# Altium schematic symbol library EugenesLib.SchLib: 18 symbols
Pins are listed as number, name and electrical type; pins without a type are passive.

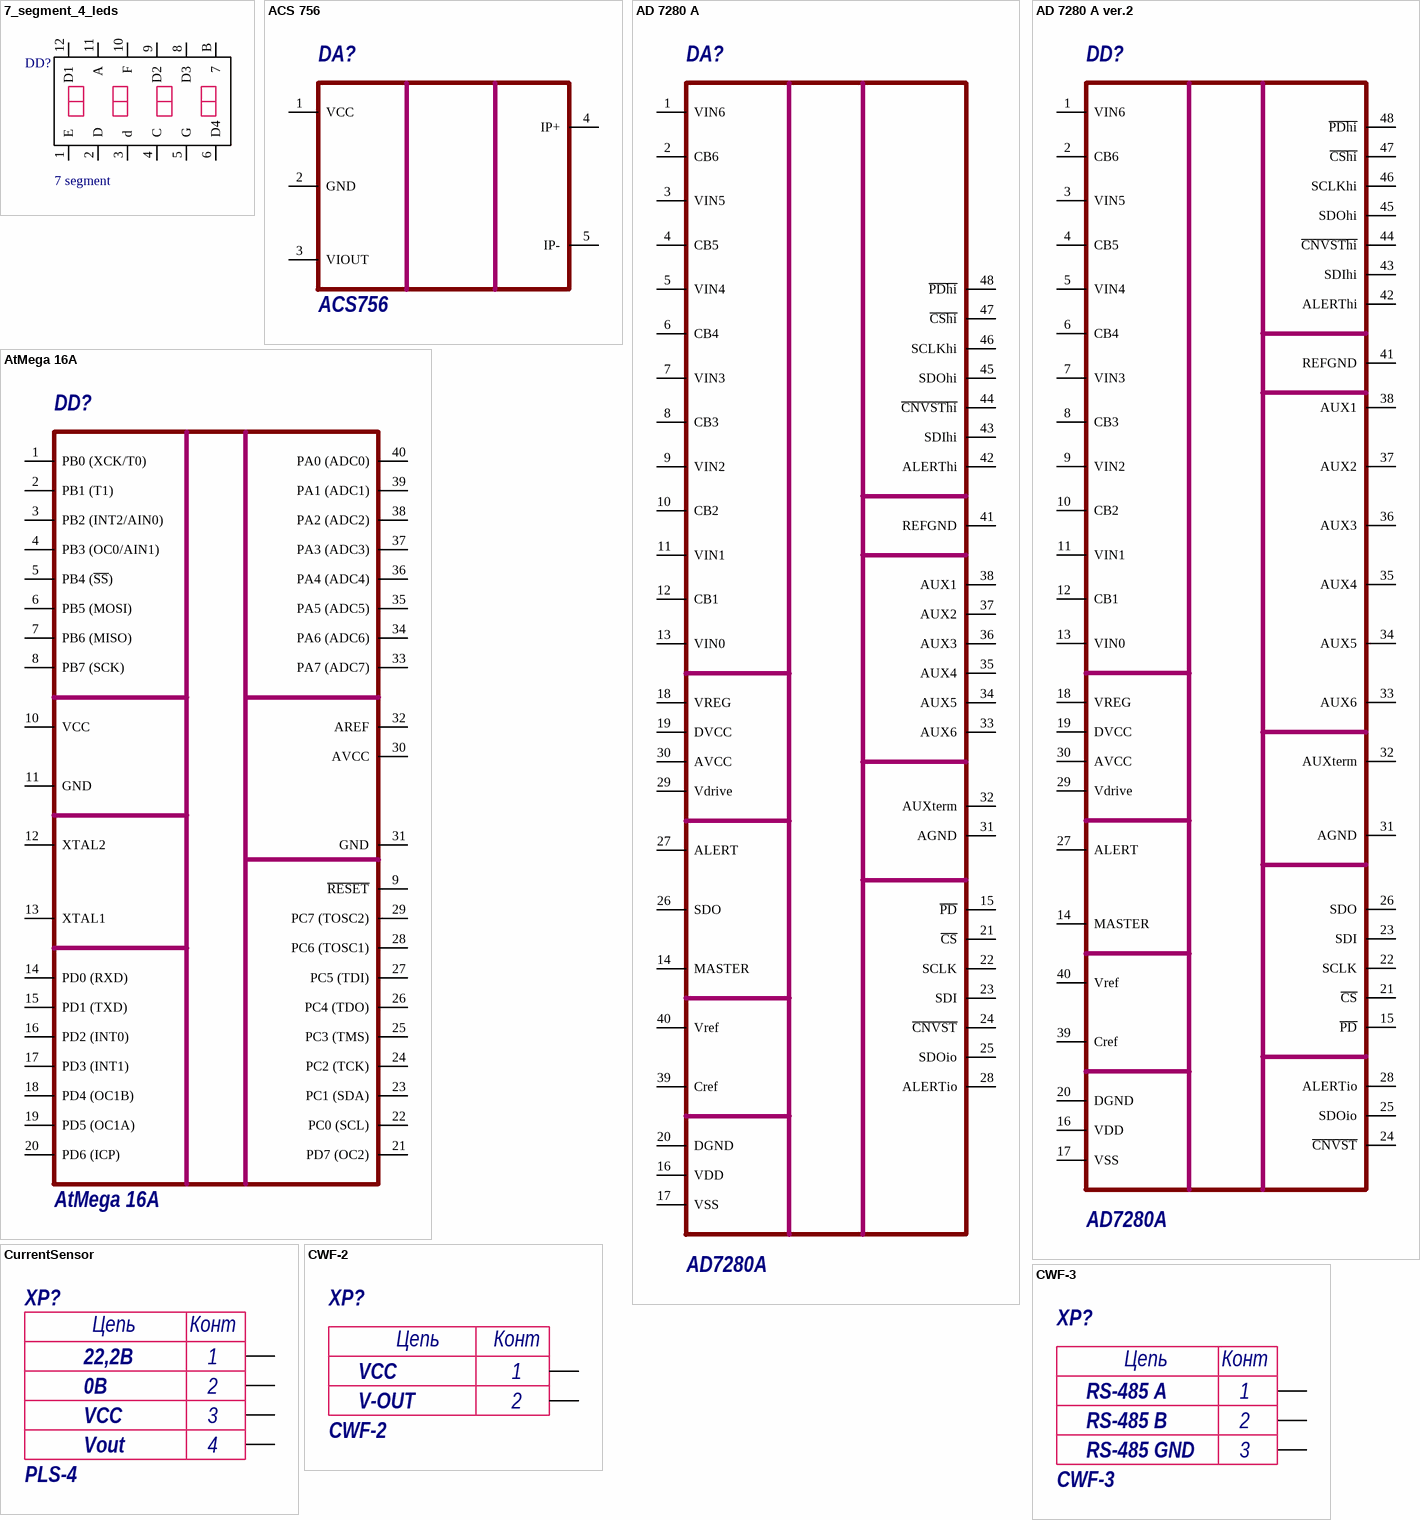
[diagram p0: symbols 7_segment_4_leds to CWF-3]

## 7_segment_4_leds
designator DD?, comment 7 segment
footprint 7_segment_4_digits
pins: 1 E, 2 D, 3 d, 4 C, 5 G, 6 D4, 8 D3, 9 D2, 10 F, 11 A, 12 D1, B 7

## ACS 756
designator DA?, comment ACS756
Value: ACS756
footprint ACS 758
pins: 1 VCC, 2 GND, 3 VIOUT, 4 IP+, 5 IP-

## AD 7280 A
designator DA?, comment AD7280A
AD 7280 A; Value: AD7280A
footprint AD7280A-LQFP-48
pins: 1 VIN6, 2 CB6, 3 VIN5, 4 CB5, 5 VIN4, 6 CB4, 7 VIN3, 8 CB3, 9 VIN2, 10 CB2, 11 VIN1, 12 CB1, 13 VIN0, 14 MASTER, 15 ~{PD}, 16 VDD, 17 VSS, 18 VREG, 19 DVCC, 20 DGND, 21 ~{CS}, 22 SCLK, 23 SDI, 24 ~{CNVST}, 25 SDOio, 26 SDO, 27 ALERT, 28 ALERTio, 29 Vdrive, 30 AVCC, 31 AGND, 32 AUXterm, 33 AUX6, 34 AUX5, 35 AUX4, 36 AUX3, 37 AUX2, 38 AUX1, 39 Cref, 40 Vref, 41 REFGND, 42 ALERThi, 43 SDIhi, 44 ~{CNVSThi}, 45 SDOhi, 46 SCLKhi, 47 ~{CShi}, 48 ~{PDhi}

## AD 7280 A ver.2
designator DD?, comment AD7280A
Value: AD7280A
footprint AD7280A-LQFP-48
pins: 1 VIN6, 2 CB6, 3 VIN5, 4 CB5, 5 VIN4, 6 CB4, 7 VIN3, 8 CB3, 9 VIN2, 10 CB2, 11 VIN1, 12 CB1, 13 VIN0, 14 MASTER, 15 ~{PD}, 16 VDD, 17 VSS, 18 VREG, 19 DVCC, 20 DGND, 21 ~{CS}, 22 SCLK, 23 SDI, 24 ~{CNVST}, 25 SDOio, 26 SDO, 27 ALERT, 28 ALERTio, 29 Vdrive, 30 AVCC, 31 AGND, 32 AUXterm, 33 AUX6, 34 AUX5, 35 AUX4, 36 AUX3, 37 AUX2, 38 AUX1, 39 Cref, 40 Vref, 41 REFGND, 42 ALERThi, 43 SDIhi, 44 ~{CNVSThi}, 45 SDOhi, 46 SCLKhi, 47 ~{CShi}, 48 ~{PDhi}

## AtMega 16A
designator DD?
Value: AtMega 16A
footprint AtMega 16A TQFP-44 (TQFP, 44-Leads, Body 10,00x10,00mm, Pitch 0,80mm, IPC Medium Density)
pins: 1 PB0 (XCK/T0), 2 PB1 (T1), 3 PB2 (INT2/AIN0), 4 PB3 (OC0/AIN1), 5 PB4 (~{SS}), 6 PB5 (MOSI), 7 PB6 (MISO), 8 PB7 (SCK), 9 ~{RESET}, 10 VCC, 11 GND, 12 XTAL2, 13 XTAL1, 14 PD0 (RXD), 15 PD1 (TXD), 16 PD2 (INT0), 17 PD3 (INT1), 18 PD4 (OC1B), 19 PD5 (OC1A), 20 PD6 (ICP), 21 PD7 (OC2), 22 PC0 (SCL), 23 PC1 (SDA), 24 PC2 (TCK), 25 PC3 (TMS), 26 PC4 (TDO), 27 PC5 (TDI), 28 PC6 (TOSC1), 29 PC7 (TOSC2), 30 AVCC, 31 GND, 32 AREF, 33 PA7 (ADC7), 34 PA6 (ADC6), 35 PA5 (ADC5), 36 PA4 (ADC4), 37 PA3 (ADC3), 38 PA2 (ADC2), 39 PA1 (ADC1), 40 PA0 (ADC0)

## CurrentSensor
designator XP?, comment PLS-4
footprint CurrentSensor
pins: 1, 2, 3, 4
text: Цепь; Конт; 22,2В; 0В; VCC; Vout

## CWF-2
designator XP?
footprint CWF-2
pins: 1, 2
text: Цепь; Конт; VCC; V-OUT

## CWF-3
designator XP?
footprint CWF-3
pins: 1, 2, 3
text: Цепь; Конт; RS-485 A; RS-485 B; RS-485 GND

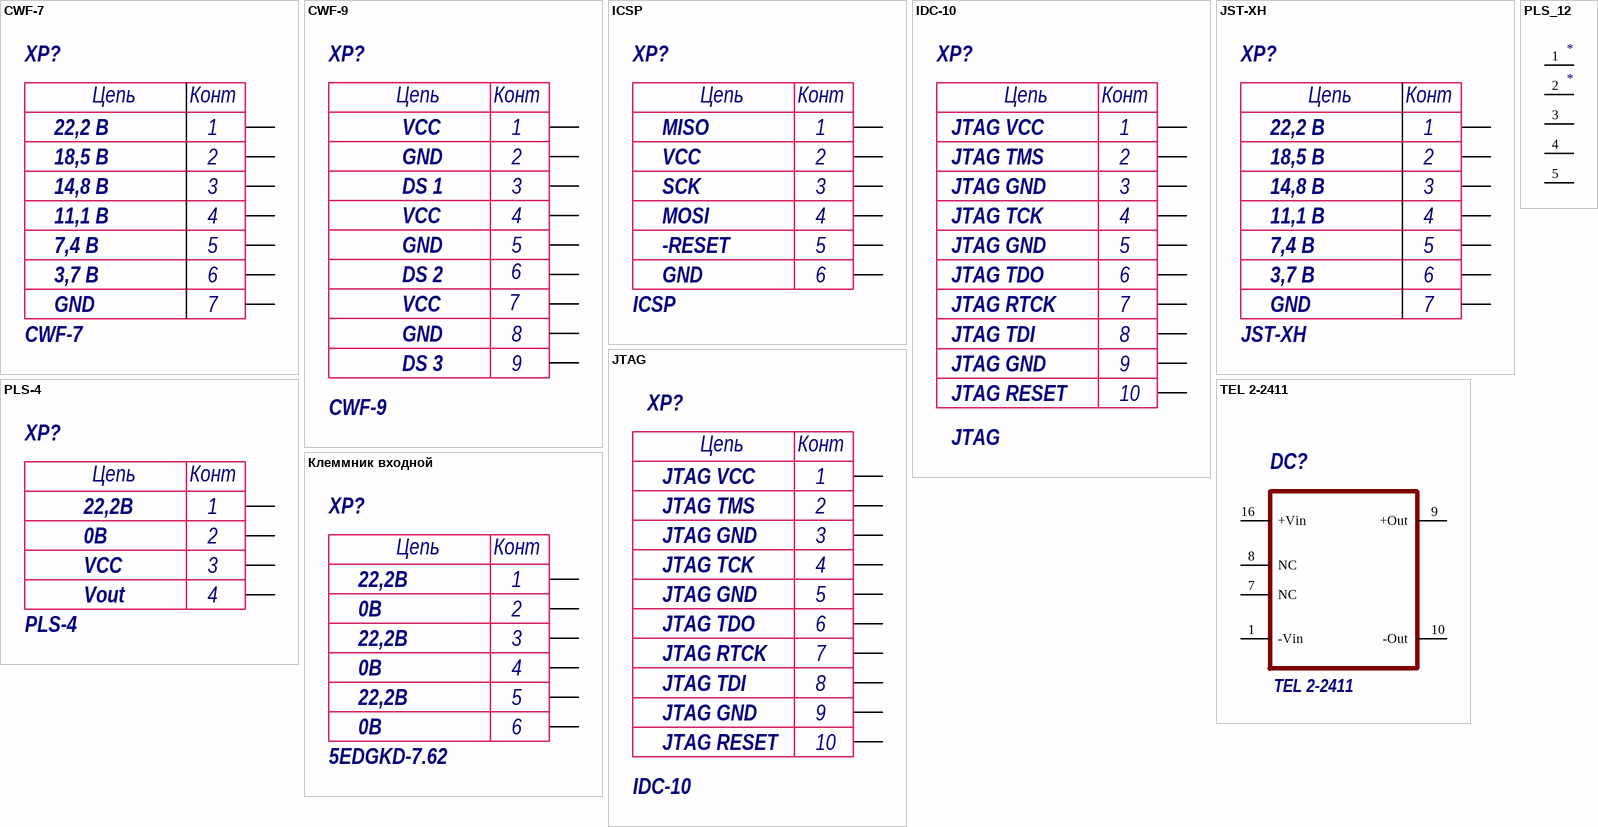
[diagram p1: symbols CWF-7 to Клеммник входной]

## CWF-7
designator XP?
Value: CWF-7
footprint CWF-7
pins: 1, 2, 3, 4, 5, 6, 7
text: Цепь; Конт; 22,2 В; 18,5 В; 14,8 В; 11,1 В; 7,4 В; 3,7 В; GND

## CWF-9
designator XP?
Value: CWF-9
footprint CWF-9
pins: 1, 2, 3, 4, 5, 6, 7, 8, 9
text: Цепь; Конт; VCC; GND; DS 1; DS 2; DS 3

## ICSP
designator XP?
pins: 1, 2, 3, 4, 5, 6
text: Цепь; Конт; MISO; VCC; SCK; MOSI; -RESET; GND

## IDC-10
designator XP?, comment Value1: JTAG VCC  Value2: JTAG TMS  Value3: JTAG GND  Value4: JTAG TCK  Value6: JTAG TDO  Value7: JTAG RTCK  Value8: JTAG TDI  Value10: JTAG RESET  (hidden comment: JTAG)
Value: JTAG; Value5: JTAG GND; Value9: JTAG GND
footprint IDC-10 (IDC-10 Male Connector)
pins: 1, 2, 3, 4, 5, 6, 7, 8, 9, 10
text: Цепь; Конт

## JST-XH
designator XP?
Value: JST-XH
footprint JST-XH
pins: 1, 2, 3, 4, 5, 6, 7
text: Цепь; Конт; 22,2 В; 18,5 В; 14,8 В; 11,1 В; 7,4 В; 3,7 В; GND

## JTAG
designator XP?, comment IDC-10
footprint IDC-10 (IDC-10 Male Connector)
pins: 1, 2, 3, 4, 5, 6, 7, 8, 9, 10
text: Цепь; Конт; JTAG VCC; JTAG TMS; JTAG GND; JTAG TCK; JTAG TDO; JTAG RTCK; JTAG TDI; JTAG RESET

## PLS-4
designator XP?
Value: PLS-4
footprint PLS4
pins: 1, 2, 3, 4
text: Цепь; Конт; 22,2В; 0В; VCC; Vout

## PLS_12
designator *
pins: 1, 2, 3, 4, 5

## TEL 2-2411
designator DC?
Manufacturer: производитель; Rate: уровень напряжений; Shop: магазин с самой дешевой ценой; Notice: примечания; Datasheet: ссылка на даташит; Case: корпус; Value: TEL 2-2411
footprint TEL 2-2411
pins: 1 -Vin, 7 NC, 8 NC, 9 +Out, 10 -Out, 16 +Vin

## Клеммник входной
designator XP?, comment 5EDGKD-7.62
Value: 5EDGKD-7.62
footprint 5EDGKD-7.62
pins: 1, 2, 3, 4, 5, 6
text: Цепь; Конт; 22,2В; 0В